# Altium footprint library ES_Pcb.PcbLib: 383 footprints (part 7 of 24)
Each footprint in its own frame and in the unit in brackets; x right, y up, seen from the top. Pads: shape width x height; smd on the part's side, far side on the other; paste and mask are expansions set on the pad; w line width, h text height; cw(c..) or ccw(c..) is an arc to the next point about the centre after c.
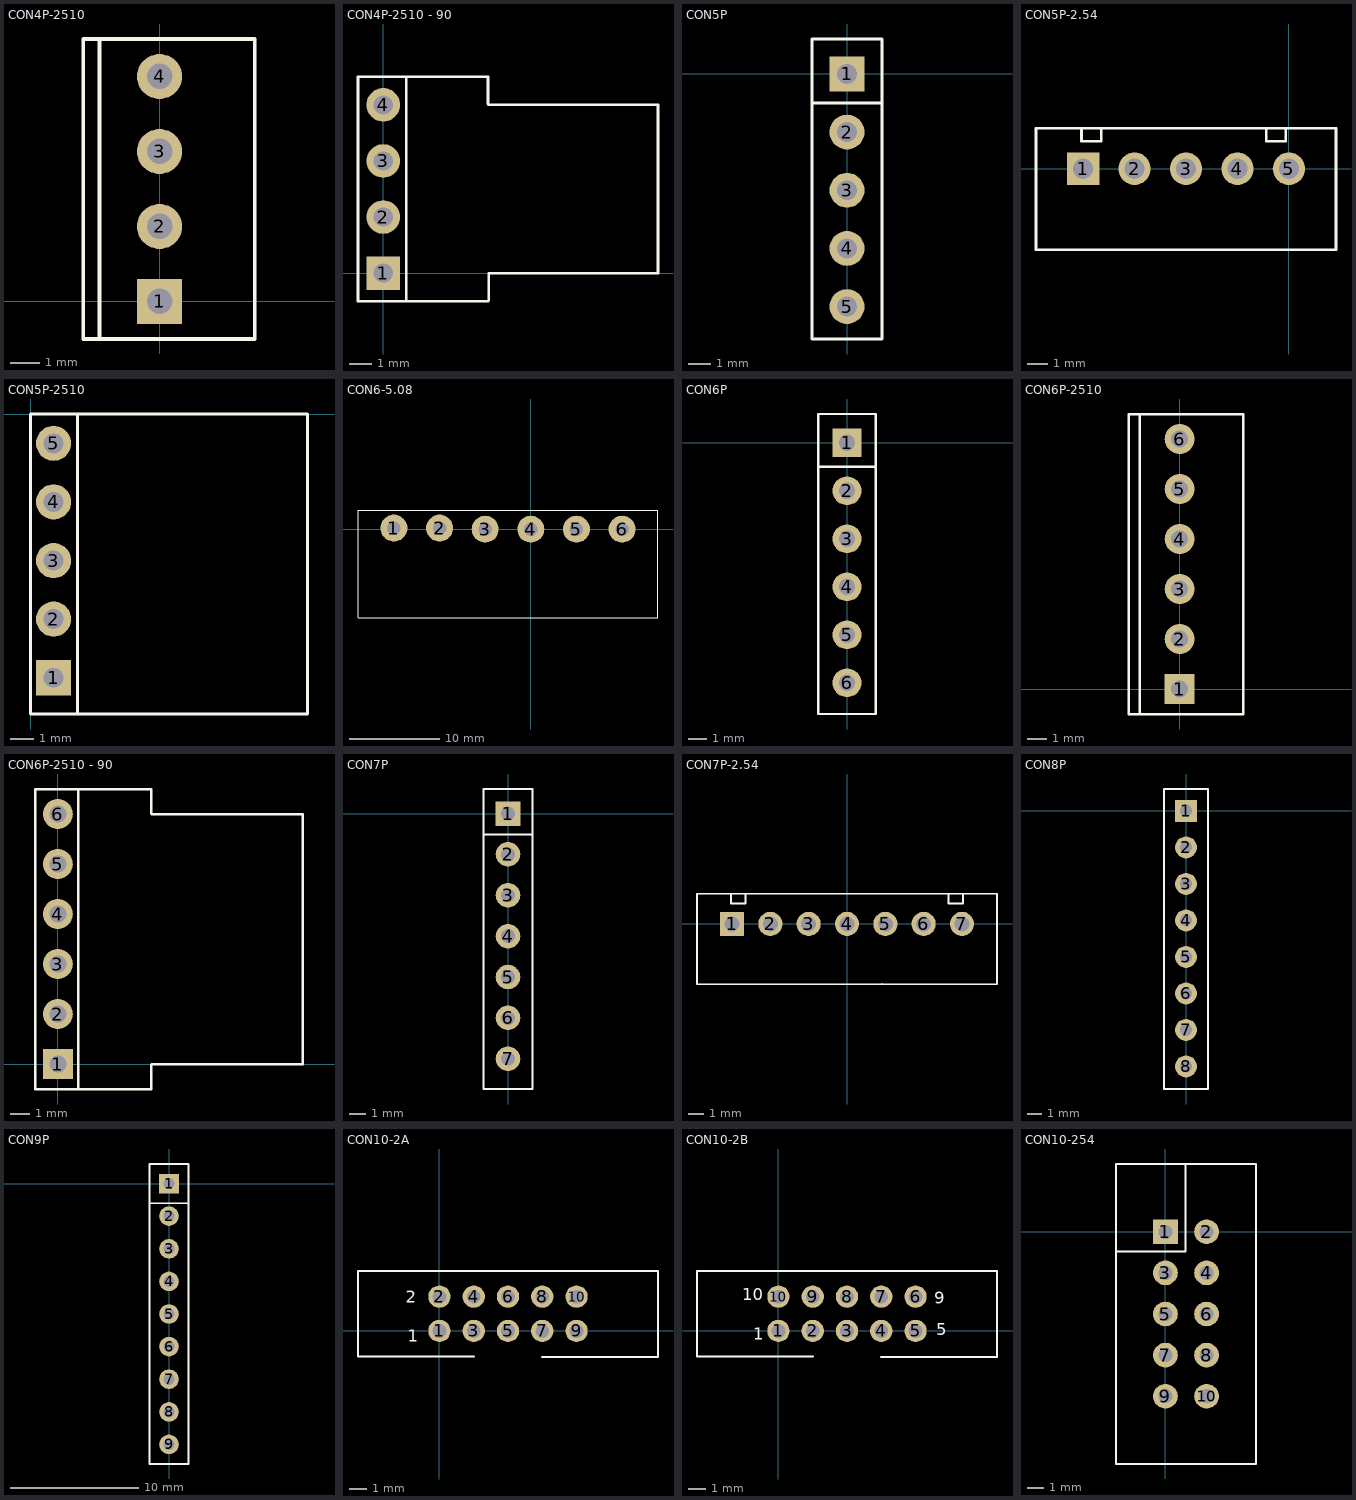
[diagram p6: the footprints below, top view; thin cyan lines are the x and y axes]

## CON4P-2510 [mil]
pads (4):
  rect 60x60 hole 34: 1(0,0)
  round 60 hole 34: 2(0,100) 3(0,200) 4(0,300)
Top Overlay:
  lines w5: -80,-50 -80,350 ; -101.57,-50 126.77,-50 126.77,350 -101.57,350 -101.57,-50

## CON4P-2510 - 90 [mil]
pads (4):
  rect 60x60 hole 34: 1(0,0)
  round 60 hole 34: 2(0,100) 3(0,200) 4(0,300)
Top Overlay:
  lines w5: 186.57,-50 40.89,-50 ; 188.15,-48.43 188.15,0 489.72,0 489.72,300 188.15,300 186.57,301.57 186.57,350 40.89,350 ; 40.89,-50 -45,-50 -45,93.43 -45,350 40.89,350 ; 40.89,-50 40.89,350

## CON5P [mil]
pads (5):
  rect 60x60 hole 34: 1(0,0)
  round 60 hole 34: 2(0,-100) 3(0,-200) 4(0,-300) 5(0,-400)
Top Overlay:
  lines w5: -60,-50 60,-50 ; -60,-455.71 -60,60 60,60 60,-455.71 -60,-455.71

## CON5P-2.54 [mm]
pads (5):
  rect 1.6x1.6 hole 1: 1(-10.16,0)
  round 1.6 hole 1: 2(-7.62,0) 3(-5.08,0) 4(-2.54,0) 5(0,0)
Top Overlay:
  lines w0.127: -12.481,-4 2.321,-4 ; -12.481,-3.988 -12.481,1.981 ; -12.481,2 2.321,2 ; -10.236,1.981 -10.236,1.346 -9.271,1.346 -9.271,1.981 ; -1.118,1.981 -1.118,1.346 -0.152,1.346 -0.152,1.981 ; 2.321,-3.988 2.321,1.981

## CON5P-2510 [mil]
pads (5):
  rect 60x60 hole 34: 1(39.37,-450)
  round 60 hole 34: 2(39.37,-350) 3(39.37,-250) 4(39.37,-150) 5(39.37,-50)
Top Overlay:
  lines w5: 80,-510 80,0 ; 0,-511.81 472.44,-511.81 472.44,0 0,0 0,-511.81

## CON6-5.08 [mm]
pads (6):
  round 3 hole 1.5: 1(-15.24,0.127) 2(-10.16,0.127) 3(-5.08,0) 4(0,0) 5(5.08,0) 6(10.16,0)
Top Overlay:
  lines w0.127: -19.24,-9.873 -16.51,-9.873 -7.747,-9.873 14.16,-9.873 14.16,-5.461 14.16,1.143 14.16,2.095 ; -19.24,-9.842 -19.24,-4.985 -19.24,2.127 ; -19.208,2.127 -16.256,2.127 -7.493,2.127 14.16,2.127

## CON6P [mil]
pads (6):
  rect 60x60 hole 34: 1(0,0)
  round 60 hole 34: 2(0,-100) 3(0,-200) 4(0,-300) 5(0,-400) 6(0,-500)
Top Overlay:
  lines w5: -60,-50 60,-50 ; -60,-565 -60,60 60,60 60,-565 -60,-565

## CON6P-2510 [mil]
pads (6):
  rect 60x60 hole 34: 1(0,0)
  round 60 hole 34: 2(0,100) 3(0,200) 4(0,300) 5(0,400) 6(0,500)
Top Overlay:
  lines w5: -80,-50 -80,350 -80,550 ; -101.57,-50 -101.57,350 -101.57,550 126.77,550 126.77,350 126.77,-50 -101.57,-50

## CON6P-2510 - 90 [mil]
pads (6):
  rect 60x60 hole 34: 1(0,0)
  round 60 hole 34: 2(0,100) 3(0,200) 4(0,300) 5(0,400) 6(0,500)
Top Overlay:
  lines w5: 40.89,-50 40.89,550 ; 40.89,-50 186.57,-50 186.57,-1.57 188.15,0 489.72,0 489.72,500 188.15,500 186.57,501.57 186.57,550 40.89,550 ; 40.89,-50 -45,-50 -45,293.43 -45,550 40.89,550

## CON7P [mil]
pads (7):
  rect 60x60 hole 34: 1(0,0)
  round 60 hole 34: 2(0,-100) 3(0,-200) 4(0,-300) 5(0,-400) 6(0,-500) 7(0,-600)
Top Overlay:
  lines w5: -60,-51 60,-51 ; -60,-674 -60,60 60,60 60,-674 -60,-674

## CON7P-2.54 [mm]
pads (7):
  rect 1.6x1.6 hole 1: 1(-7.62,0)
  round 1.6 hole 1: 2(-5.08,0) 3(-2.54,0) 4(0,0) 5(2.54,0) 6(5.08,0) 7(7.62,0)
Top Overlay:
  lines w0.127: -9.941,1.981 -9.941,-4 9.941,-4 ; -9.941,2 9.941,2 ; -7.696,1.981 -7.696,1.346 -6.731,1.346 -6.731,1.981 ; 2.309,-4 2.321,-3.988 ; 6.731,1.93 6.731,1.346 7.696,1.346 7.696,1.93 ; 9.941,-3.988 9.941,1.981

## CON8P [mil]
pads (8):
  rect 60x60 hole 34: 1(0,0)
  round 60 hole 34: 2(0,-100) 3(0,-200) 4(0,-300) 5(0,-400) 6(0,-500) 7(0,-600) 8(0,-700)
Top Overlay:
  lines w5: -60,-761.81 -60,60 60,60 60,-761.81 -60,-761.81

## CON9P [mil]
pads (9):
  rect 60x60 hole 34: 1(0,0)
  round 60 hole 34: 2(0,-100) 3(0,-200) 4(0,-300) 5(0,-400) 6(0,-500) 7(0,-600) 8(0,-700) 9(0,-800)
Top Overlay:
  lines w5: -60,-60 60,-60 ; -60,-860 -60,60 60,60 60,-860 -60,-860

## CON10-2A [mm]
pads (10):
  round 1.3 hole 0.8: 1(0,0) 2(0,2) 3(2,0) 4(2,2) 5(4,0) 6(4,2) 7(6,0) 8(6,2) 9(8,0) 10(8,2)
Top Overlay:
  lines w0.127: 2,-1.5 -4.75,-1.5 -4.75,3.5 12.75,3.5 12.75,-1.525 6,-1.525
  text "2" at -1.969,1.657 h0.7
  text "1" at -1.842,-0.629 h0.7

## CON10-2B [mm]
pads (10):
  round 1.3 hole 0.8: 1(0,0) 2(2,0) 3(4,0) 4(6,0) 5(8,0) 6(8,2) 7(6,2) 8(4,2) 9(2,2) 10(0,2)
Top Overlay:
  lines w0.127: 2,-1.5 -4.75,-1.5 -4.75,3.5 12.75,3.5 12.75,-1.525 6,-1.525
  text "10" at -2.096,1.784 h0.7
  text "1" at -1.461,-0.502 h0.7
  text "5" at 9.207,-0.248 h0.7
  text "6" at 9.715,2.292 h0.7

## CON10-254 [mil]
pads (10):
  rect 60x60 hole 34: 1(0,0)
  round 60 hole 34: 2(100,0) 3(0,-100) 4(100,-100) 5(0,-200) 6(100,-200) 7(0,-300) 8(100,-300) 9(0,-400) 10(100,-400)
Top Overlay:
  lines w5: -120,-48 49,-48 49,163 ; -120,-565 -120,165 220,165 220,-565 -120,-565